# Altium schematic symbol library RF_Digital_RFD22301_Altium_Schematic_Library.SchLib: 1 symbol
Pins are listed as number, name and electrical type; pins without a type are passive.

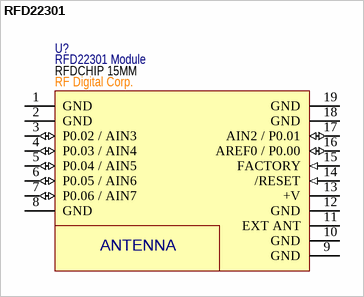
[diagram p0: symbol RFD22301]

## RFD22301
designator U?, comment RFD22301 Module  DistributorPN: RF Digital Corp.  PackageReference: RFDCHIP 15MM
Bluetooth 4.0 Low Energy BLE RF Module  With Built-In ARM Cortex M0 Microconroller; LatestRevisionDate: 15-Feb-2012; Publisher: RF Digital Corp.; ComponentLink1URL: http://www.rfdigital.com; ComponentLink1Description: Manufacturer Link; ComponentLink2Description: Datasheet; ComponentLink2URL: http://files.rfdigital.com/rfd22301.data.sheet.11.24.13_11.38pm.pdf; DatasheetVersion: 7/10/2011 1:40 AM; LatestRevisionNote: *; ManufacturerPartNumber: RFD22301
footprint RFD22301 (2.4 GHz RF Transceiver Module)
pins: 1 GND (power), 2 GND (power), 3 P0.02 / AIN3 (io), 4 P0.03 / AIN4 (io), 5 P0.04 / AIN5 (io), 6 P0.05 / AIN6 (io), 7 P0.06 / AIN7 (io), 8 GND (power), 9 GND (power), 10 GND (power), 11 EXT ANT, 12 GND (power), 13 +V (power), 14 /RESET (in), 15 FACTORY (in), 16 AREF0 / P0.00 (io), 17 AIN2 / P0.01 (io), 18 GND (power), 19 GND (power)
text: ANTENNA